# Altium schematic symbol library Wurth.SchLib: 20 symbols
Pins are listed as number, name and electrical type; pins without a type are passive.

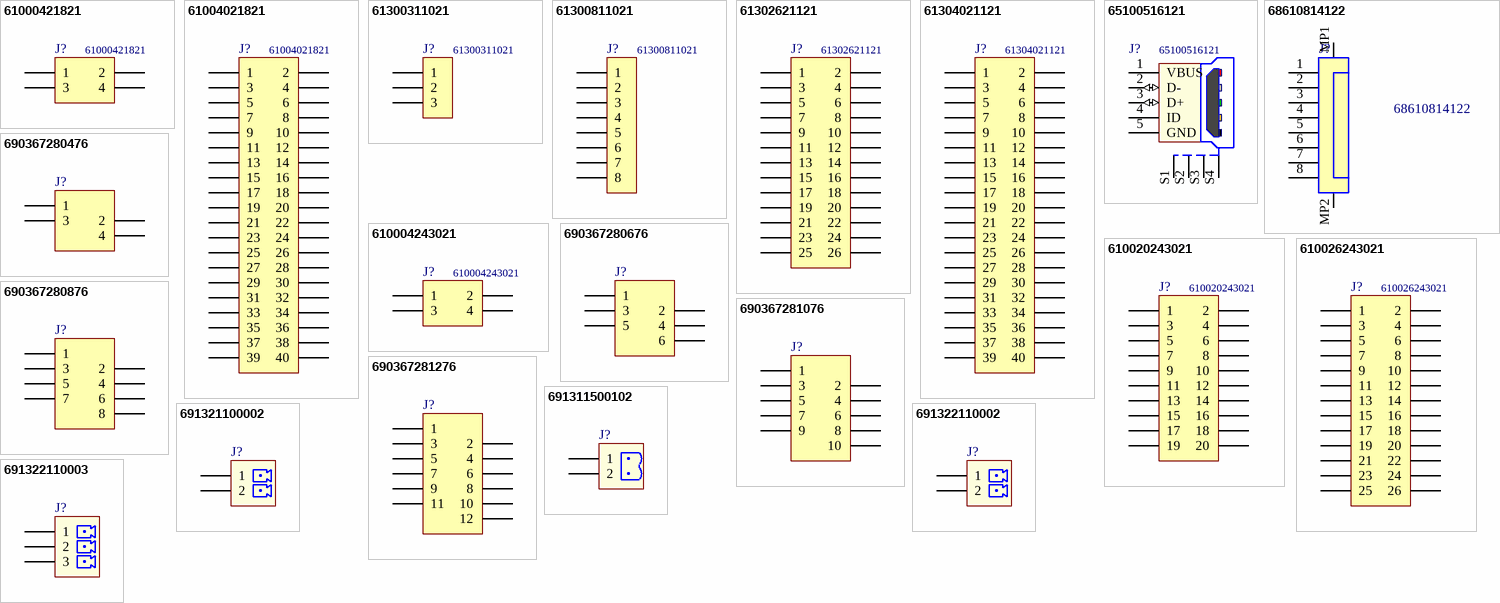
[diagram p0: symbols 61000421821 to 691322110003]

## 61000421821
designator J?
WR-PHD Socket Header, SMT, pitch 2.54mm, Dual Row, Vertical, 4p; Manufacturer: Wurth Elektronik; Value: 4; ComponentLink1Description: Datasheet; ComponentLink1URL: https://www.we-online.com/catalog/datasheet/61000421821.pdf; Manufacturer Part Number: 61000421821; Supplier 1: Farnell; Supplier Part Number 1: 2827865
footprint 61000421821
pins: 1, 2, 3, 4

## 61004021821
designator J?
WR-PHD Socket Header, SMT, pitch 2.54mm, Dual Row, Vertical, 40p; Manufacturer: Wurth Elektronik; Value: 40; ComponentLink1Description: Datasheet; ComponentLink1URL: https://www.we-online.com/catalog/datasheet/61004021821.pdf; Manufacturer Part Number: 61004021821; Supplier 1: Farnell; Supplier Part Number 1: 2827882
footprint 61004021821
pins: 1, 2, 3, 4, 5, 6, 7, 8, 9, 10, 11, 12, 13, 14, 15, 16, 17, 18, 19, 20, 21, 22, 23, 24, 25, 26, 27, 28, 29, 30, 31, 32, 33, 34, 35, 36, 37, 38, 39, 40

## 61300311021
designator J?
WR-PHD Header THT 2.54mm, Single Row, Angled, 3pin; Manufacturer: Wurth Electronics Inc.; Value: 3; ComponentLink1Description: Datasheet; ComponentLink1URL: https://www.we-online.com/catalog/datasheet/61300311021.pdf; Manufacturer Part Number: 61300311021; Supplier 1: Farnell; Supplier Part Number 1: 2356177
footprint 61300311021 (Pin Header, pitch 2.54 mm, THT, Angled, single row, 3p)
pins: 1, 2, 3

## 61300811021
designator J?
WR-PHD Header THT 2.54mm, Single Row, Angled, 8pin; Manufacturer: Wurth Electronics Inc.; Value: 8; ComponentLink1Description: Datasheet; ComponentLink1URL: https://www.we-online.com/catalog/datasheet/61300811021.pdf; Manufacturer Part Number: 61300811021; Supplier Part Number 1: 2356183; Supplier 1: Farnell
footprint 61300811021
pins: 1, 2, 3, 4, 5, 6, 7, 8

## 61302621121
designator J?
WR-PHD Pin Header, THT, pitch 2.54mm, Dual Row, Vertical, 26p; Manufacturer: Wurth Elektronik; Value: 26; ComponentLink1Description: Datasheet; ComponentLink1URL: https://www.we-online.com/catalog/datasheet/61302621121.pdf; Manufacturer Part Number: 61302621121; Supplier 1: Farnell; Supplier Part Number 1: 2356141
footprint 61302621121
pins: 1, 2, 3, 4, 5, 6, 7, 8, 9, 10, 11, 12, 13, 14, 15, 16, 17, 18, 19, 20, 21, 22, 23, 24, 25, 26

## 61304021121
designator J?
WR-PHD Pin Header, THT, pitch 2.54mm, Dual Row, Vertical, 40p; Manufacturer: Wurth Elektronik; Value: 40; ComponentLink1Description: Datasheet; ComponentLink1URL: https://www.we-online.com/catalog/datasheet/61304021121.pdf; Manufacturer Part Number: 61304021121; Supplier 1: Farnell; Supplier Part Number 1: 2356148
footprint 61304021121
pins: 1, 2, 3, 4, 5, 6, 7, 8, 9, 10, 11, 12, 13, 14, 15, 16, 17, 18, 19, 20, 21, 22, 23, 24, 25, 26, 27, 28, 29, 30, 31, 32, 33, 34, 35, 36, 37, 38, 39, 40

## 65100516121
designator J?
Mini USB 2.0 Type B, Receptacle, Horizontal, SMT; Manufacturer: Wurth Elektronik; Value: 5; ComponentLink1Description: Manufacturer; ComponentLink1URL: https://www.we-online.com/catalog/en/COM_SMT_MINI_TYPE_B_HORIZONTAL/#65100516121; ComponentLink2Description: Datasheet; ComponentLink2URL: https://katalog.we-online.com/em/datasheet/65100516121.pdf; Manufacturer Part Number: 65100516121; Supplier 1: Farnell; Supplier Part Number 1: 1642036
footprint 65100516121
pins: 1 VBUS, 2 D- (io), 3 D+ (io), 4 ID, 5 GND, S1 Shield, S2 Shield, S3 Shield, S4 Shield

## 68610814122
designator J?
WR-FPC SMT ZIF Horizontal Top Contact, pitch 1mm, 8p; Manufacturer: Wurth Electronics Inc.; Value: 8; Manufacturer Part Number: 68610814122; ComponentLink1URL: https://www.we-online.com/catalog/datasheet/68610814122.pdf; ComponentLink1Description: Datasheet; Supplier 1: Farnell; Supplier Part Number 1: 1641905
footprint 68610814122 (ZIF Connectors, Horizontal, Top Contact, pitch 1mm, 8p)
pins: 1, 2, 3, 4, 5, 6, 7, 8, MP1, MP2

## 610004243021
designator J?
WR-PHD Socket Header, SMT, pitch 2.54mm, Dual Row, Vertical, 4p; Manufacturer: Wurth Elektronik; Value: 4; ComponentLink1Description: Datasheet; ComponentLink1URL: https://www.we-online.com/catalog/datasheet/610004243021.pdf; Manufacturer Part Number: 610004243021; Supplier 1: Farnell; Supplier Part Number 1: 2827931
footprint 610004243021
footprint 610004243021_NO-HOLE (Socket Header, Pitch 2.54 mm, SMT, Vertical, dual row, 4p)
pins: 1, 2, 3, 4

## 610020243021
designator J?
WR-PHD Socket Header, SMT, pitch 2.54mm, Dual Row, Vertical, 20p; Manufacturer: Wurth Elektronik; Value: 20; ComponentLink1Description: Datasheet; ComponentLink1URL: https://www.we-online.com/catalog/datasheet/610020243021.pdf; Manufacturer Part Number: 610020243021; Supplier 1: Farnell; Supplier Part Number 1: 2827937
footprint 610020243021
footprint 610020243021_NO-HOLE (Socket Header, Pitch 2.54 mm, SMT, Vertical, dual row, 20p)
pins: 1, 2, 3, 4, 5, 6, 7, 8, 9, 10, 11, 12, 13, 14, 15, 16, 17, 18, 19, 20

## 610026243021
designator J?
WR-PHD Socket Header, SMT, pitch 2.54mm, Dual Row, Vertical, 26p; Manufacturer: Wurth Elektronik; Value: 26; ComponentLink1Description: Datasheet; ComponentLink1URL: https://www.we-online.com/catalog/datasheet/610026243021.pdf; Manufacturer Part Number: 610026243021; Supplier 1: Farnell; Supplier Part Number 1: 2827940
footprint 610026243021
footprint 610026243021_NO-HOLE (Socket Header, Pitch 2.54 mm, SMT, Vertical, dual row, 26p)
pins: 1, 2, 3, 4, 5, 6, 7, 8, 9, 10, 11, 12, 13, 14, 15, 16, 17, 18, 19, 20, 21, 22, 23, 24, 25, 26

## 690367280476
designator J?  (value not drawn)
WR-MM 4p Female SMT Connector with Polarization; Manufacturer: Wurth Electronics Inc.; Value: 4; ComponentLink1Description: Datasheet; ComponentLink1URL: http://katalog.we-online.de/em/datasheet/69036728xx76.pdf; Manufacturer Part Number: 690367280476; Supplier 1: Farnell; Supplier Part Number 1: 1641848
footprint 690367280476 (without Latch, 4 pins, SMT, straight)
pins: 1, 2, 3, 4

## 690367280676
designator J?  (value not drawn)
WR-MM 6p Female SMT Connector with Polarization; Manufacturer: Wurth Electronics Inc.; Value: 6; ComponentLink1Description: Datasheet; ComponentLink1URL: http://katalog.we-online.de/em/datasheet/69036728xx76.pdf; Manufacturer Part Number: 690367280676; Supplier 1: Farnell; Supplier Part Number 1: 1641849
footprint 690367280676 (without Latch, 6 pins, SMT, straight)
pins: 1, 2, 3, 4, 5, 6

## 690367280876
designator J?  (value not drawn)
WR-MM 8p Female SMT Connector with Polarization; Manufacturer: Wurth Electronics Inc.; Value: 8; Manufacturer Part Number: 690367280876; ComponentLink1Description: Datasheet; ComponentLink1URL: http://katalog.we-online.de/em/datasheet/69036728xx76.pdf; Supplier 1: Farnell; Supplier Part Number 1: 1641850
footprint 690367280876 (without Latch, 8 pins, SMT, straight)
pins: 1, 2, 3, 4, 5, 6, 7, 8

## 690367281076
designator J?  (value not drawn)
WR-MM 10p Female SMT Connector with Polarization; Manufacturer: Wurth Electronics Inc.; Value: 10; Manufacturer Part Number: 690367281076; ComponentLink1Description: Datasheet; ComponentLink1URL: http://katalog.we-online.de/em/datasheet/69036728xx76.pdf; Supplier 1: Farnell; Supplier Part Number 1: 1641851
footprint 690367281076 (without Latch, 10 pins, SMT, straight)
pins: 1, 2, 3, 4, 5, 6, 7, 8, 9, 10

## 690367281276
designator J?  (value not drawn)
WR-MM 12p Female SMT Connector with Polarization; Manufacturer: Wurth Electronics Inc.; Value: 12; Manufacturer Part Number: 690367281276; ComponentLink1Description: Datasheet; ComponentLink1URL: http://katalog.we-online.de/em/datasheet/69036728xx76.pdf; Supplier 1: Farnell; Supplier Part Number 1: 2984330
footprint 690367281276 (without Latch, 12 pins, SMT, straight)
pins: 1, 2, 3, 4, 5, 6, 7, 8, 9, 10, 11, 12

## 691311500102
designator J?  (value not drawn)
WR-TBL 2p Series 311 - 5.08 mm Closed Vertical PCB Header; Manufacturer: Wurth Electronics Inc.; Value: 2; Manufacturer Part Number: 691311500102; ComponentLink1Description: Datasheet; ComponentLink1URL: https://katalog.we-online.de/em/datasheet/6913115001xx.pdf; Supplier 1: Farnell; Supplier Part Number 1: 1641978
footprint 691311500102 (5,08mm - PCB Headers - Vertical - Closed ends -02p)
pins: 1, 2

## 691321100002
designator J?  (value not drawn)
WR-TBL 2p Series 3211 - 3.50 mm Vertical PCB Header; Manufacturer: Wurth Electronics Inc.; Value: 2; Supplier 1: Farnell; Manufacturer Part Number: 691321100002; Supplier Part Number 1: 1841308; ComponentLink1Description: Datasheet; ComponentLink1URL: https://katalog.we-online.de/em/datasheet/6913211000xx.pdf
footprint 691321100002 (Vertical PCB Header, pitch 3.5mm, 02p)
pins: 1, 2

## 691322110002
designator J?  (value not drawn)
WR-TBL 2p Series 3221 - 3.50 mm Horizontal PCB Header; Manufacturer: Wurth Electronics Inc.; Value: 2; Supplier 1: Farnell; Manufacturer Part Number: 691322110002; Supplier Part Number 1: 1841315; ComponentLink1Description: Datasheet; ComponentLink1URL: http://katalog.we-online.de/em/datasheet/6913221100xx.pdf
footprint 691322110002 (Horizontal PCB Header, pitch 3.5mm, 02p)
pins: 1, 2

## 691322110003
designator J?  (value not drawn)
WR-TBL 3p Series 3221 - 3.50 mm Horizontal PCB Header; Manufacturer: Wurth Electronics Inc.; Value: 3; Supplier 1: Farnell; Manufacturer Part Number: 691322110003; Supplier Part Number 1: 1841316; ComponentLink1Description: Datasheet; ComponentLink1URL: http://katalog.we-online.de/em/datasheet/6913221100xx.pdf
footprint 691322110003 (Horizontal PCB Header, pitch 3.5mm, 03p)
pins: 1, 2, 3